# Altium footprint library USB.PcbLib: 11 footprints
Each footprint in its own frame and in the unit in brackets; x right, y up, seen from the top. Pads: shape width x height; smd on the part's side, far side on the other; paste and mask are expansions set on the pad; w line width, h text height; cw(c..) or ccw(c..) is an arc to the next point about the centre after c.
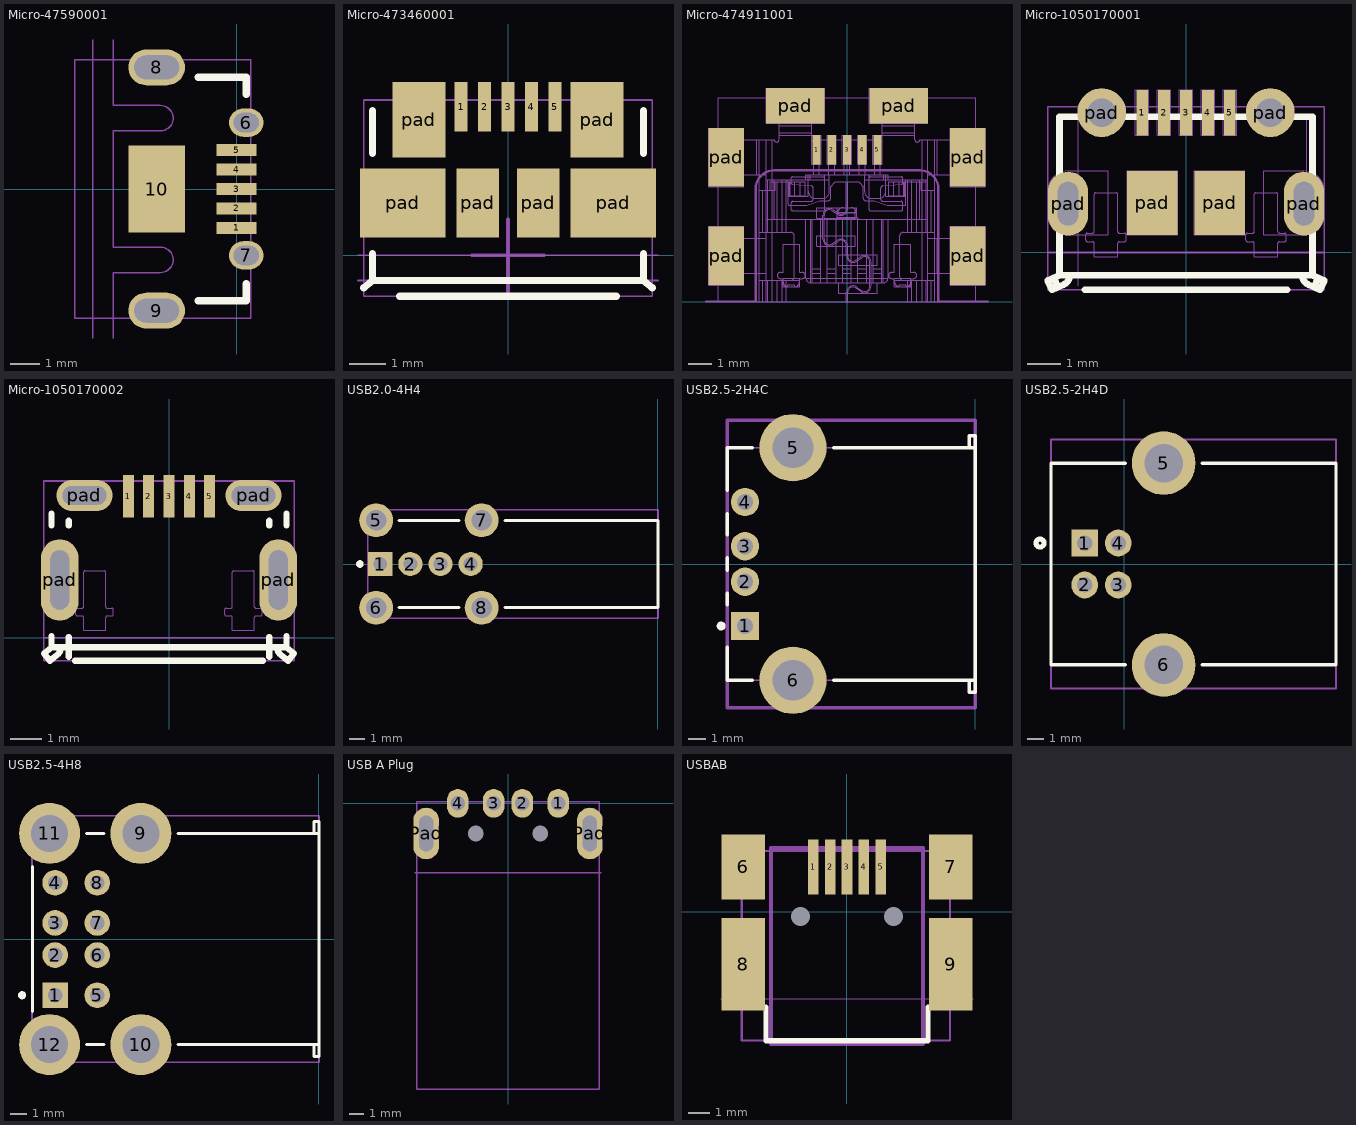
[diagram p0: the footprints below, top view; thin cyan lines are the x and y axes]

## Micro-47590001 [mm] "USB AB贴片座"
height 3
pads (10):
  rect 1.35x0.4 smd: 1(0,-1.3) 2(0,-0.65) 3(0,0) 4(0,0.65) 5(0,1.3)
  oval 1.15x0.95 hole 0.65 slot 0.85 at 0 deg: 6(0.325,2.225) 7(0.325,-2.225)
  oval 1.9x1.2 hole 0.8 slot 1.5 at 0 deg: 8(-2.675,4.075) 9(-2.675,-4.075)
  rect 1.9x2.9 smd: 10(-2.675,0)
Top Overlay:
  lines w0.254: -1.275,-3.75 0.325,-3.75 0.325,-3.175 ; -1.275,3.75 0.325,3.75 0.325,3.175
Mechanical 1:
  lines w0.05: -4.825,-5 -4.825,0 -4.825,5 ; -4.125,-5 -4.125,-2.8 -2.55,-2.8 ccw(c-2.55,-2.375) -2.55,-1.95 -4.125,-1.95 -4.125,0 -4.125,1.95 -2.55,1.95 ccw(c-2.55,2.375) -2.55,2.8 -4.125,2.8 -4.125,5
Mechanical 13:
  lines w0.05: -5.425,-4.325 0.475,-4.325 0.475,4.325 -5.425,4.325 -5.425,-4.325
3D body: height 2.76, standoff -0.6, extent -5.425,-4.325 0.475,4.325

## Micro-473460001 [mm] "Micro USB"
height 2.5
pads (11):
  rect 0.35x1.38 smd: 1(-1.3,4.11) 2(-0.65,4.11) 3(0,4.11) 4(0.65,4.11) 5(1.3,4.11)
  rect 2.375x1.9 smd: pad(-2.913,1.45) pad(2.913,1.45)
  rect 1.475x2.1 smd: pad(-2.464,3.75) pad(2.464,3.75)
  rect 1.175x1.9 smd: pad(-0.838,1.45) pad(0.838,1.45)
Top Overlay:
  lines w0.2: -3.99,-0.899 -3.75,-0.7 ; -3.75,0.051 -3.75,-0.7 ; -3.75,2.825 -3.75,4 ; -3,-1.13 3,-1.13 ; 3.75,0.051 3.75,-0.7 ; 3.75,2.825 3.75,4 ; 3.99,-0.899 3.75,-0.7 ; -3.75,-0.7 3.75,-0.7
Mechanical 1:
  lines w0.05: -4.15,0 4.15,0
Mechanical 13:
  lines w0.05: -3.99,-1.13 -3.99,4.3 3.99,4.3 3.99,-1.13 -3.99,-1.13
Mechanical 15:
  lines w0.05: -4.15,-0.7 4.15,-0.7
  lines w0.1: -1,0 1,0 ; 0,-1 0,1
3D body: height 2.74, standoff -0.2, extent -3.99,-1.13 3.99,4.3

## Micro-474911001 [mm] "Micro USB 沉板贴片型"
height 1.27
pads (11):
  rect 0.35x1.25 smd: 1(-1.3,6.475) 2(-0.65,6.475) 3(0,6.475) 4(0.65,6.475) 5(1.3,6.475)
  rect 1.5x2.5 smd: pad(-5.15,1.95) pad(-5.15,6.15) pad(5.15,1.95) pad(5.15,6.15)
  rect 2.5x1.5 smd: pad(-2.2,8.35) pad(2.2,8.35)
Mechanical 1:
  lines w0.1: -6,0 -3.9,0 -3.9,4.8 cw(c-3.1,4.8) -3.1,5.6 3.1,5.6 cw(c3.1,4.8) 3.9,4.8 3.9,0 6,0
Mechanical 13:
  lines w0.05: -5.5,0 5.5,0 5.5,8.7 -5.5,8.7 -5.5,0
Mechanical 15:
  drawing of 818 lines, arcs and shapes, not listed
3D body: height 1.46, standoff -1.22, extent -5.5,0 5.5,8.7

## Micro-1050170001 [mm] "Micro USB"
height 2.5
pads (11):
  rect 0.35x1.35 smd: 1(-1.3,4.148) 2(-0.65,4.148) 3(0,4.148) 4(0.65,4.148) 5(1.3,4.148)
  oval 1.2x1.9 hole 0.6 slot 1.3 at 90 deg: pad(-3.5,1.448) pad(3.5,1.448)
  round 1.45 hole 0.85: pad(-2.5,4.148) pad(2.5,4.148)
  rect 1.5x1.9 smd: pad(-1,1.473) pad(1,1.473)
Top Overlay:
  lines w0.2: -3.917,-0.752 -3.795,-1.026 ; -3.45,-0.68 cw(c-3.745,-0.68) -3.625,-0.95 -3.978,-1.107 -4.1,-0.833 -3.75,-0.677 ; -3,-1.107 3,-1.107 ; 3.45,-0.68 ccw(c3.745,-0.68) 3.625,-0.95 3.978,-1.107 4.1,-0.833 3.75,-0.677 ; 3.795,-1.026 3.917,-0.752 ; -3.75,-0.677 3.75,-0.677 ; -3.75,-0.677 -3.75,4.023 3.75,4.023 3.75,-0.677
Mechanical 1:
  lines w0.05: -4.1,-0.002 4.1,0
Mechanical 13:
  lines w0.05: -4.1,-1.107 4.1,-1.107 4.1,4.323 -4.1,4.323 -4.1,-1.107
Mechanical 15:
  lines w0.01: -3.917,-0.752 -3.795,-1.026 ; -3.45,-0.68 cw(c-3.745,-0.68) -3.625,-0.95 -3.978,-1.107 -4.1,-0.833 -3.75,-0.677 ; -3.2,-0.982 -3.2,4.023 ; -3,-1.107 3,-1.107 ; -2.8,4.323 2.8,4.323 ; -2.075,4.073 cw(c-2.4,4.073) -2.4,3.748 -2.6,3.748 cw(c-2.6,4.073) -2.925,4.073 -2.925,4.273 cw(c-2.6,4.273) -2.6,4.598 -2.4,4.598 cw(c-2.4,4.273) -2.075,4.273 ; -1.875,4.073 cw(c-2.4,4.073) -2.4,3.548 -2.6,3.548 cw(c-2.6,4.073) -3.125,4.073 -3.125,4.273 cw(c-2.6,4.273) -2.6,4.798 -2.4,4.798 cw(c-2.4,4.273) -1.875,4.273 ; 3.45,-0.68 ccw(c3.745,-0.68) 3.625,-0.95 3.978,-1.107 4.1,-0.833 3.75,-0.677 ; 3.589,2.223 3.589,4.023 ; 3.795,-1.026 3.917,-0.752 ; -3.75,-0.677 -3.75,4.023 3.75,4.023 3.75,-0.677 ; -3.75,-0.677 3.75,-0.677 ; -4.105,1.138 ccw(c-3.49,1.138) -3.49,0.523 -2.3,0.523 -2.3,2.423 -3.49,2.423 ccw(c-3.49,1.808) -4.105,1.808 -4.105,1.138 ; -3.905,1.138 ccw(c-3.49,1.138) -3.075,1.138 -3.075,1.808 ccw(c-3.49,1.808) -3.905,1.808 -3.905,1.138 ; -2.975,0.373 ccw(c-2.925,0.373) -2.925,0.323 -2.775,0.323 cw(c-2.775,0.273) -2.725,0.273 -2.725,-0.127 -2.025,-0.127 -2.025,0.273 cw(c-1.975,0.273) -1.975,0.323 -1.825,0.323 ccw(c-1.825,0.373) -1.775,0.373 -1.775,0.523 ccw(c-1.825,0.523) -1.825,0.573 -1.975,0.573 cw(c-1.975,0.623) -2.025,0.623 -2.025,1.723 ccw(c-2.075,1.723) -2.075,1.773 -2.675,1.773 ccw(c-2.675,1.723) -2.725,1.723 -2.725,0.623 cw(c-2.775,0.623) -2.775,0.573 -2.925,0.573 ccw(c-2.925,0.523) -2.975,0.523 -2.975,0.373 ; -1.75,0.523 -1.75,2.423 -0.25,2.423 -0.25,0.523 -1.75,0.523 ; -1.5,3.473 -1.5,4.823 -1.1,4.823 -1.1,3.473 -1.5,3.473 ; -0.85,3.473 -0.85,4.823 -0.45,4.823 -0.45,3.473 -0.85,3.473 ; -0.2,3.473 -0.2,4.823 0.2,4.823 0.2,3.473 -0.2,3.473 ; 0.25,0.523 1.75,0.523 1.75,2.423 0.25,2.423 0.25,0.523 ; 0.45,3.473 0.45,4.823 0.85,4.823 0.85,3.473 0.45,3.473 ; 1.1,3.473 1.1,4.823 1.5,4.823 1.5,3.473 1.1,3.473 ; 1.775,0.373 ccw(c1.825,0.373) 1.825,0.323 1.975,0.323 cw(c1.975,0.273) 2.025,0.273 2.025,-0.127 2.725,-0.127 2.725,0.273 cw(c2.775,0.273) 2.775,0.323 2.925,0.323 ccw(c2.925,0.373) 2.975,0.373 2.975,0.523 ccw(c2.925,0.523) 2.925,0.573 2.775,0.573 cw(c2.775,0.623) 2.725,0.623 2.725,1.723 ccw(c2.675,1.723) 2.675,1.773 2.075,1.773 ccw(c2.075,1.723) 2.025,1.723 2.025,0.623 cw(c1.975,0.623) 1.975,0.573 1.825,0.573 ccw(c1.825,0.523) 1.775,0.523 1.775,0.373 ; 1.875,4.073 ccw(c2.4,4.073) 2.4,3.548 2.6,3.548 ccw(c2.6,4.073) 3.125,4.073 3.125,4.273 ccw(c2.6,4.273) 2.6,4.798 2.4,4.798 ccw(c2.4,4.273) 1.875,4.273 1.875,4.073 ; 2.075,4.073 ccw(c2.4,4.073) 2.4,3.748 2.6,3.748 ccw(c2.6,4.073) 2.925,4.073 2.925,4.273 ccw(c2.6,4.273) 2.6,4.598 2.4,4.598 ccw(c2.4,4.273) 2.075,4.273 2.075,4.073 ; 2.3,0.523 3.49,0.523 ccw(c3.49,1.138) 4.105,1.138 4.105,1.808 ccw(c3.49,1.808) 3.49,2.423 2.3,2.423 2.3,0.523 ; 3.075,1.138 ccw(c3.49,1.138) 3.905,1.138 3.905,1.808 ccw(c3.49,1.808) 3.075,1.808 3.075,1.138
3D body: height 2.75, standoff -0.56, extent -4.1,-1.107 4.1,4.323

## Micro-1050170002 [mm] "Micro USB"
height 2.5
pads (9):
  rect 0.35x1.35 smd: 1(-1.3,4.525) 2(-0.65,4.525) 3(0,4.525) 4(0.65,4.525) 5(1.3,4.525)
  oval 1.2x2.6 hole 0.6 slot 1.9 at 90 deg: pad(-3.49,1.85) pad(3.49,1.85)
  oval 1.8x1 hole 0.6 slot 1.4 at 0 deg: pad(-2.7,4.55) pad(2.7,4.55)
Top Overlay:
  lines w0.2: -3.75,0.057 -3.75,-0.3 ; -3.75,3.588 -3.75,3.97 ; -3.45,-0.302 cw(c-3.745,-0.302) -3.561,-0.533 -3.808,-0.73 -3.995,-0.496 -3.75,-0.3 ; -3.2,-0.605 -3.2,0.032 ; -3.2,3.588 -3.2,3.74 ; -3,-0.73 3,-0.73 ; 3.2,-0.605 3.2,0.032 ; 3.2,3.588 3.2,3.74 ; 3.45,-0.302 ccw(c3.745,-0.302) 3.561,-0.533 3.808,-0.73 3.995,-0.496 3.75,-0.3 ; 3.75,0.057 3.75,-0.3 ; 3.75,3.588 3.75,3.97 ; -3.75,-0.3 3.75,-0.3
Mechanical 1:
  lines w0.05: -4,0 4,0
Mechanical 13:
  lines w0.05: -3.995,-0.73 3.995,-0.73 3.995,5.01 -3.995,5.01 -3.995,-0.73
Mechanical 15:
  lines w0.01: -3.45,-0.302 -3.45,-0.3 ; 3.45,-0.302 3.45,-0.3 ; -2.975,0.75 ccw(c-2.925,0.75) -2.925,0.7 -2.775,0.7 cw(c-2.775,0.65) -2.725,0.65 -2.725,0.25 -2.025,0.25 -2.025,0.65 cw(c-1.975,0.65) -1.975,0.7 -1.825,0.7 ccw(c-1.825,0.75) -1.775,0.75 -1.775,0.9 ccw(c-1.825,0.9) -1.825,0.95 -1.975,0.95 cw(c-1.975,1) -2.025,1 -2.025,2.1 ccw(c-2.075,2.1) -2.075,2.15 -2.675,2.15 ccw(c-2.675,2.1) -2.725,2.1 -2.725,1 cw(c-2.775,1) -2.775,0.95 -2.925,0.95 ccw(c-2.925,0.9) -2.975,0.9 -2.975,0.75 ; 1.775,0.75 ccw(c1.825,0.75) 1.825,0.7 1.975,0.7 cw(c1.975,0.65) 2.025,0.65 2.025,0.25 2.725,0.25 2.725,0.65 cw(c2.775,0.65) 2.775,0.7 2.925,0.7 ccw(c2.925,0.75) 2.975,0.75 2.975,0.9 ccw(c2.925,0.9) 2.925,0.95 2.775,0.95 cw(c2.775,1) 2.725,1 2.725,2.1 ccw(c2.675,2.1) 2.675,2.15 2.075,2.15 ccw(c2.075,2.1) 2.025,2.1 2.025,1 cw(c1.975,1) 1.975,0.95 1.825,0.95 ccw(c1.825,0.9) 1.775,0.9 1.775,0.75
3D body: height 2.75, standoff -0.65, extent -3.995,-0.73 3.995,5.01

## USB2.0-4H4 [mm] "Connector; USB1.1, Type A, Thru-Hole; 4 Position; Right Angle"
height 13.83
pads (8):
  rect 1.6x1.6 hole 0.92: 1(-18.43,0)
  round 1.6 hole 0.92: 2(-16.43,0) 3(-14.43,0) 4(-12.43,0)
  round 2.25 hole 1.35: 5(-18.7,2.9) 6(-18.7,-2.9) 7(-11.7,2.9) 8(-11.7,-2.9)
Top Overlay:
  circle w0.25: c-19.78,0 r0.125
  lines w0.2: -17.19,-2.88 -13.21,-2.88 ; -17.19,2.88 -13.21,2.88 ; -10.16,-2.88 0,-2.88 0,2.88 -10.16,2.88
Mechanical 13:
  lines w0.1: -19.25,-3.6 0,-3.6 0,3.6 -19.25,3.6 -19.25,-3.6
3D body: height 14.64, standoff -3.65, extent -19.25,-3.6 0,3.6

## USB2.5-2H4C [mm] "Connector; USB1.1, Type A, Thru-Hole; 4 Position; Right Angle"
height 7.01
pads (6):
  rect 1.6x1.6 hole 0.92: 1(-12.99,-3.5)
  round 1.6 hole 0.92: 2(-12.99,-1) 3(-12.99,1) 4(-12.99,3.5)
  round 3.8 hole 2.3: 5(-10.28,6.57) 6(-10.28,-6.57)
Top Overlay:
  circle w0.25: c-14.34,-3.5 r0.125
  lines w0.2: -14,-4.7 -14,-6.565 -12.58,-6.565 ; -14,-2.3 -14,-1.66 ; -14,-0.34 -14,0.34 ; -14,1.66 -14,2.84 ; -14,4.16 -14,6.565 -12.58,6.565 ; -7.98,-6.565 0,-6.565 ; -7.98,6.565 0,6.565 ; -0.32,-6.565 -0.32,-7.25 0,-7.25 0,-6.565 ; -0.32,6.565 -0.32,7.25 0,7.25 0,6.565 ; 0,-6.565 0,6.565
Mechanical 13:
  lines w0.1: -14,-6.565 -14,6.565 -0.32,6.565 -0.32,7.25 0,7.25 0,-7.25 -0.32,-7.25 -0.32,-6.565 -14,-6.565
  lines w0.2: -14,-8.117 -14,8.117 0,8.117 0,-8.117 -14,-8.117
3D body: height 7.67, standoff -3.6, extent -14,-8.117 0,8.117

## USB2.5-2H4D [mm] "Connector; USB1.1, Type B, Thru-Hole; 4 Position; Right Angle"
height 11.1
pads (6):
  rect 1.6x1.6 hole 0.92: 1(-2.355,1.25)
  round 1.6 hole 0.92: 2(-2.355,-1.25) 3(-0.355,-1.25) 4(-0.355,1.25)
  round 3.8 hole 2.3: 5(2.355,6.02) 6(2.355,-6.02)
Top Overlay:
  circle w0.3: c-5.02,1.25 r0.24
  lines w0.2: 0.055,-6.02 -4.365,-6.02 -4.365,6.02 0.055,6.02 ; 4.655,-6.02 12.635,-6.02 12.635,6.02 4.655,6.02
Mechanical 13:
  lines w0.1: -4.365,-7.43 -4.365,7.43 12.635,7.43 12.635,-7.43 -4.365,-7.43
3D body: height 11.05, standoff -4.17, extent -4.365,-7.43 12.635,7.43

## USB2.5-4H8 [mm] "Connector; USB1.1, Type A, Thru-Hole; 4x4 Position; Right Angle"
height 15.82
pads (12):
  rect 1.6x1.6 hole 0.92: 1(-16.42,-3.5)
  round 1.6 hole 0.92: 2(-16.42,-1) 3(-16.42,1) 4(-16.42,3.5) 5(-13.8,-3.5) 6(-13.8,-1) 7(-13.8,1) 8(-13.8,3.5)
  round 3.8 hole 2.3: 9(-11.09,6.57) 10(-11.09,-6.57) 11(-16.77,6.57) 12(-16.77,-6.57)
Top Overlay:
  circle w0.25: c-18.48,-3.5 r0.125
  lines w0.2: -17.83,-4.5 -17.83,4.5 ; -14.47,-6.565 -13.39,-6.565 ; -14.47,6.565 -13.39,6.565 ; -8.763,-6.565 0,-6.565 ; -8.763,6.565 0,6.565 ; -0.32,-6.565 -0.32,-7.315 0,-7.315 0,-6.565 ; -0.32,6.565 -0.32,7.315 0,7.315 0,6.565 ; 0,-6.565 0,6.565
Mechanical 13:
  lines w0.1: -17.86,-7.662 -17.86,7.662 0,7.662 0,-7.662 -17.86,-7.662
3D body: height 15.88, standoff -3.28, extent -17.86,-7.662 0,7.662

## USB A Plug [mm] "USB插头 480370001 USB A Plug"
height 4.5
pads (8):
  oval 1.5x2 hole 1: 1(3.5,0) 2(1,0) 3(-1,0) 4(-3.5,0)
  round 1 hole 1.1 unplated: Hole(-2.25,-2.1) Hole(2.25,-2.1)
  oval 1.8x3.6 hole 1 slot 2.5 at 90 deg: Pad(-5.7,-2.1) Pad(5.7,-2.1)
Top Overlay:
  lines w0.254: -5.969,-1.104 -5.965,-1.1
Mechanical 1:
  lines w0.1: -6.5,-4.85 6.5,-4.85
Mechanical 13:
  lines w0.1: -6.348,-19.9 -6.348,0.125 6.348,0.125 6.348,-19.9 -6.348,-19.9
3D body: height 3.1, standoff -2.87, extent -6.348,-19.9 6.348,0.125

## USBAB [mm]
pads (11):
  rect 0.5x2.6 smd: 1(-1.6,2.125) 2(-0.8,2.125) 3(0,2.125) 4(0.8,2.125) 5(1.6,2.125)
  rect 2.05x3.1 smd: 6(-4.925,2.125) 7(4.925,2.125)
  rect 2.05x4.4 smd: 8(-4.925,-2.5) 9(4.925,-2.5)
  round 0.8 hole 0.9 unplated: Hole(-2.2,-0.225) Hole(2.2,-0.225)
Top Overlay:
  lines w0.25: -3.85,-4.525 -3.85,-6.125 3.85,-6.125 3.85,-4.525
Mechanical 13:
  lines w0.1: -5,-6.111 -5,2.889 4.9,2.889 4.9,-6.111 -5,-6.111
Mechanical 15:
  lines w0.05: -6,-4.125 6,-4.125
  lines w0.2: -3.607,-6.268 -3.607,3.029 3.607,3.029 3.607,-6.268 -3.607,-6.268
3D body: height 4.06, standoff -0.9, extent -5,-6.111 4.9,2.889